# Altium schematic symbol library THERMISTOR.SchLib: 1 symbol
Pins are listed as number, name and electrical type; pins without a type are passive.

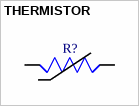
[diagram p0: symbol THERMISTOR]

## THERMISTOR
designator R?  (value not drawn)
footprint THERMISTOR
pins: 1, 2